# Altium footprint library k7sch5.PcbLib: 8 footprints
Each footprint in its own frame and in the unit in brackets; x right, y up, seen from the top. Pads: shape width x height; smd on the part's side, far side on the other; paste and mask are expansions set on the pad; w line width, h text height; cw(c..) or ccw(c..) is an arc to the next point about the centre after c.
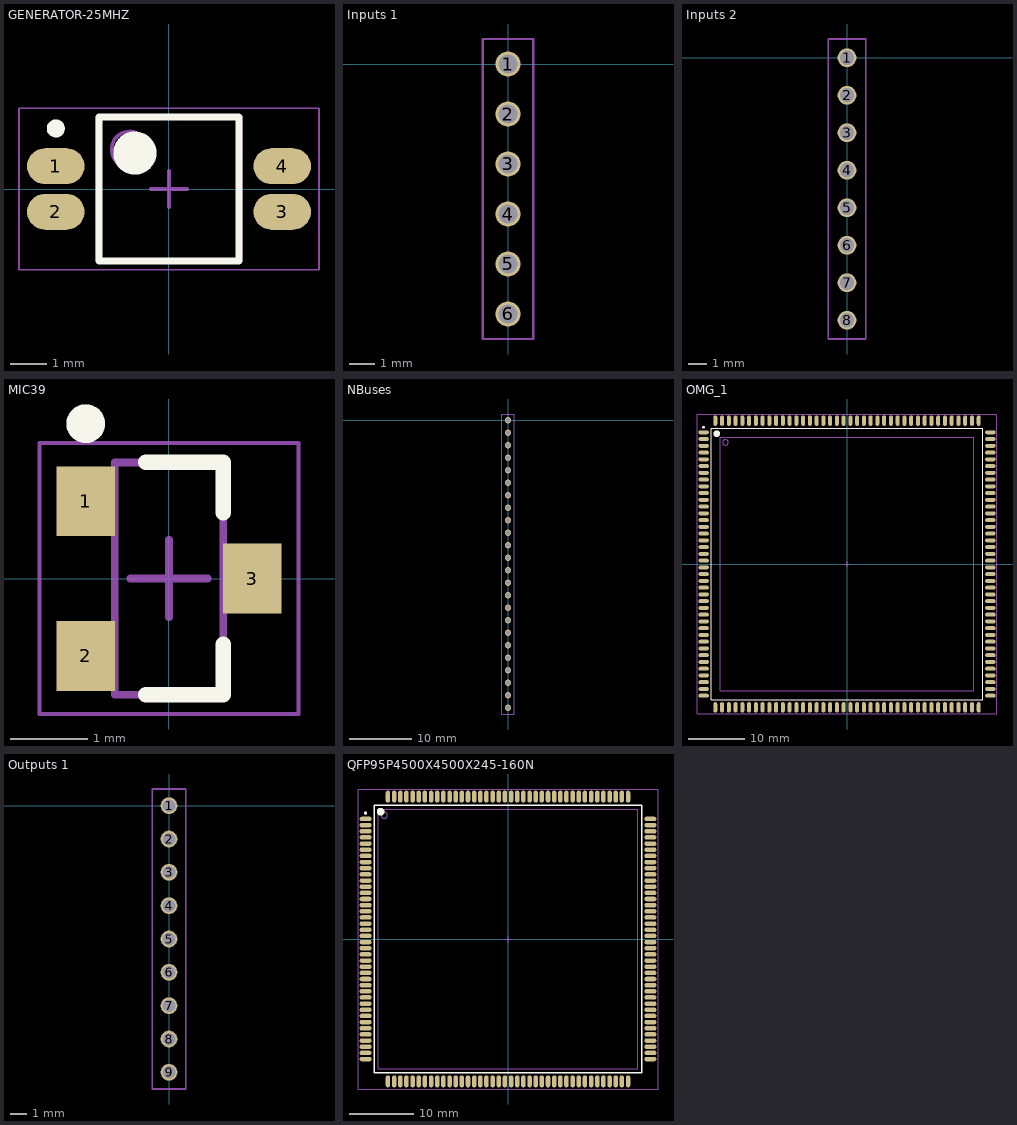
[diagram p0: the footprints below, top view; thin cyan lines are the x and y axes]

## GENERATOR-25MHZ [mm]
height 2.65
pads (4):
  oval 1.6x1 smd: 1(-3.15,0.635) 2(-3.15,-0.635) 3(3.15,-0.635) 4(3.15,0.635)
Top Overlay:
  circle w0.6: c-0.95,1 r0.3
  circle w0.25: c-3.15,1.685 r0.125
  lines w0.2: -1.95,-2 1.95,-2 1.95,2 -1.95,2 -1.95,-2
Mechanical 13:
  circle w0.1: c-1.1,1.1 r0.5
  lines w0.1: -2,-2 2,-2 2,2 -2,2 -2,-2
Mechanical 15:
  lines w0.05: -4.175,-2.25 4.175,-2.25 4.175,2.25 -4.175,2.25 -4.175,-2.25
  lines w0.1: -0.5,0 0.5,0 ; 0,-0.5 0,0.5
3D body: height 2.65, standoff 0.1, extent -2,-2 2,2

## Inputs 1 [mm]
pads (6):
  round 1 hole 0.75: 1(0,0) 2(0,-2) 3(0,-4) 4(0,-6) 5(0,-8) 6(0,-10)
Mechanical 15:
  lines w0.1: -1,-11 -1,1 1,1 1,-11 -1,-11

## Inputs 2 [mm]
pads (8):
  round 1 hole 0.75: 1(0,0) 2(0,-2) 3(0,-4) 4(0,-6) 5(0,-8) 6(0,-10) 7(0,-12) 8(0,-14)
Mechanical 15:
  lines w0.1: -1,-15 -1,1 1,1 1,-15 -1,-15

## MIC39 [mm]
height 1.1
pads (3):
  rect 0.75x0.9 smd: 1(-1.075,1) 2(-1.075,-1) 3(1.075,0)
Top Overlay:
  circle w0.25: c-1.075,2 r0.125
  lines w0.2: -0.3,-1.5 0.7,-1.5 0.7,-0.85 ; -0.3,1.5 0.7,1.5 0.7,0.85
Mechanical 13:
  lines w0.1: -0.7,-1.5 -0.7,1.5 0.7,1.5 0.7,-1.5 -0.7,-1.5
Mechanical 15:
  lines w0.05: -1.675,-1.75 -1.675,1.75 1.675,1.75 1.675,-1.75 -1.675,-1.75
  lines w0.1: -0.5,0 0.5,0 ; 0,-0.5 0,0.5
3D body: height 1.1, standoff 0.05, extent -0.7,-1.5 0.7,1.5

## NBuses [mm]
pads (24):
  round 1 hole 0.75: 1(0,0) 2(0,-2) 3(0,-4) 4(0,-6) 5(0,-8) 6(0,-10) 7(0,-12) 8(0,-14) 9(0,-16) 10(0,-18) 11(0,-20) 12(0,-22) 13(0,-24) 14(0,-26) 15(0,-28) 16(0,-30) 17(0,-32) 18(0,-34) 19(0,-36) 20(0,-38) 21(0,-40) 22(0,-42) 23(0,-44) 24(0,-46)
Mechanical 15:
  lines w0.1: -1,-47 1,-47 1,1 -1,1 -1,-47

## OMG_1 [mm] "QFP, 160-Leads, Body 45,00x45,00mm, Pitch 1,20mm, IPC Medium Density"
height 2.45
pads (160):
  oval 1.85x0.7 smd: 1(-25.475,23.4) 2(-25.475,22.2) 3(-25.475,21) 4(-25.475,19.8) 5(-25.475,18.6) 6(-25.475,17.4) 7(-25.475,16.2) 8(-25.475,15) 9(-25.475,13.8) 10(-25.475,12.6) 11(-25.475,11.4) 12(-25.475,10.2) 13(-25.475,9) 14(-25.475,7.8) 15(-25.475,6.6) 16(-25.475,5.4) 17(-25.475,4.2) 18(-25.475,3) 19(-25.475,1.8) 20(-25.475,0.6) 21(-25.475,-0.6) 22(-25.475,-1.8) 23(-25.475,-3) 24(-25.475,-4.2) 25(-25.475,-5.4) 26(-25.475,-6.6) 27(-25.475,-7.8) 28(-25.475,-9) 29(-25.475,-10.2) 30(-25.475,-11.4) 31(-25.475,-12.6) 32(-25.475,-13.8) 33(-25.475,-15) 34(-25.475,-16.2) 35(-25.475,-17.4) 36(-25.475,-18.6) 37(-25.475,-19.8) 38(-25.475,-21) 39(-25.475,-22.2) 40(-25.475,-23.4) 81(25.475,-23.4) 82(25.475,-22.2) 83(25.475,-21) 84(25.475,-19.8) 85(25.475,-18.6) 86(25.475,-17.4) 87(25.475,-16.2) 88(25.475,-15) 89(25.475,-13.8) 90(25.475,-12.6) 91(25.475,-11.4) 92(25.475,-10.2) 93(25.475,-9) 94(25.475,-7.8) 95(25.475,-6.6) 96(25.475,-5.4) 97(25.475,-4.2) 98(25.475,-3) 99(25.475,-1.8) 100(25.475,-0.6) 101(25.475,0.6) 102(25.475,1.8) 103(25.475,3) 104(25.475,4.2) 105(25.475,5.4) 106(25.475,6.6) 107(25.475,7.8) 108(25.475,9) 109(25.475,10.2) 110(25.475,11.4) 111(25.475,12.6) 112(25.475,13.8) 113(25.475,15) 114(25.475,16.2) 115(25.475,17.4) 116(25.475,18.6) 117(25.475,19.8) 118(25.475,21) 119(25.475,22.2) 120(25.475,23.4)
  oval 0.7x1.85 smd: 41(-23.4,-25.475) 42(-22.2,-25.475) 43(-21,-25.475) 44(-19.8,-25.475) 45(-18.6,-25.475) 46(-17.4,-25.475) 47(-16.2,-25.475) 48(-15,-25.475) 49(-13.8,-25.475) 50(-12.6,-25.475) 51(-11.4,-25.475) 52(-10.2,-25.475) 53(-9,-25.475) 54(-7.8,-25.475) 55(-6.6,-25.475) 56(-5.4,-25.475) 57(-4.2,-25.475) 58(-3,-25.475) 59(-1.8,-25.475) 60(-0.6,-25.475) 61(0.6,-25.475) 62(1.8,-25.475) 63(3,-25.475) 64(4.2,-25.475) 65(5.4,-25.475) 66(6.6,-25.475) 67(7.8,-25.475) 68(9,-25.475) 69(10.2,-25.475) 70(11.4,-25.475) 71(12.6,-25.475) 72(13.8,-25.475) 73(15,-25.475) 74(16.2,-25.475) 75(17.4,-25.475) 76(18.6,-25.475) 77(19.8,-25.475) 78(21,-25.475) 79(22.2,-25.475) 80(23.4,-25.475) 121(23.4,25.475) 122(22.2,25.475) 123(21,25.475) 124(19.8,25.475) 125(18.6,25.475) 126(17.4,25.475) 127(16.2,25.475) 128(15,25.475) 129(13.8,25.475) 130(12.6,25.475) 131(11.4,25.475) 132(10.2,25.475) 133(9,25.475) 134(7.8,25.475) 135(6.6,25.475) 136(5.4,25.475) 137(4.2,25.475) 138(3,25.475) 139(1.8,25.475) 140(0.6,25.475) 141(-0.6,25.475) 142(-1.8,25.475) 143(-3,25.475) 144(-4.2,25.475) 145(-5.4,25.475) 146(-6.6,25.475) 147(-7.8,25.475) 148(-9,25.475) 149(-10.2,25.475) 150(-11.4,25.475) 151(-12.6,25.475) 152(-13.8,25.475) 153(-15,25.475) 154(-16.2,25.475) 155(-17.4,25.475) 156(-18.6,25.475) 157(-19.8,25.475) 158(-21,25.475) 159(-22.2,25.475) 160(-23.4,25.475)
Top Overlay:
  circle w0.6: c-23.15,23.15 r0.3
  circle w0.25: c-25.475,24.3 r0.125
  lines w0.2: -24.15,-24.15 24.15,-24.15 24.15,24.15 -24.15,24.15 -24.15,-24.15
Mechanical 13:
  circle w0.1: c-21.6,21.6 r0.5
  lines w0.1: -22.5,-22.5 22.5,-22.5 22.5,22.5 -22.5,22.5 -22.5,-22.5
Mechanical 15:
  lines w0.05: -26.65,-26.65 26.65,-26.65 26.65,26.65 -26.65,26.65 -26.65,-26.65
  lines w0.1: -0.5,0 0.5,0 ; 0,-0.5 0,0.5
3D body: height 2.45, standoff 0.25, extent -22.5,-22.5 22.5,22.5

## Outputs 1 [mm]
pads (9):
  round 1 hole 0.75: 1(0,0) 2(0,-2) 3(0,-4) 4(0,-6) 5(0,-8) 6(0,-10) 7(0,-12) 8(0,-14) 9(0,-16)
Mechanical 15:
  lines w0.1: -1,-17 1,-17 1,1 -1,1 -1,-17

## QFP95P4500X4500X245-160N [mm] "QFP, 160-Leads, Body 40,00x40,00mm, Pitch 0,95mm, IPC Medium Density"
height 2.45
pads (160):
  oval 1.85x0.7 smd: 1(-21.975,18.525) 2(-21.975,17.575) 3(-21.975,16.625) 4(-21.975,15.675) 5(-21.975,14.725) 6(-21.975,13.775) 7(-21.975,12.825) 8(-21.975,11.875) 9(-21.975,10.925) 10(-21.975,9.975) 11(-21.975,9.025) 12(-21.975,8.075) 13(-21.975,7.125) 14(-21.975,6.175) 15(-21.975,5.225) 16(-21.975,4.275) 17(-21.975,3.325) 18(-21.975,2.375) 19(-21.975,1.425) 20(-21.975,0.475) 21(-21.975,-0.475) 22(-21.975,-1.425) 23(-21.975,-2.375) 24(-21.975,-3.325) 25(-21.975,-4.275) 26(-21.975,-5.225) 27(-21.975,-6.175) 28(-21.975,-7.125) 29(-21.975,-8.075) 30(-21.975,-9.025) 31(-21.975,-9.975) 32(-21.975,-10.925) 33(-21.975,-11.875) 34(-21.975,-12.825) 35(-21.975,-13.775) 36(-21.975,-14.725) 37(-21.975,-15.675) 38(-21.975,-16.625) 39(-21.975,-17.575) 40(-21.975,-18.525) 81(21.975,-18.525) 82(21.975,-17.575) 83(21.975,-16.625) 84(21.975,-15.675) 85(21.975,-14.725) 86(21.975,-13.775) 87(21.975,-12.825) 88(21.975,-11.875) 89(21.975,-10.925) 90(21.975,-9.975) 91(21.975,-9.025) 92(21.975,-8.075) 93(21.975,-7.125) 94(21.975,-6.175) 95(21.975,-5.225) 96(21.975,-4.275) 97(21.975,-3.325) 98(21.975,-2.375) 99(21.975,-1.425) 100(21.975,-0.475) 101(21.975,0.475) 102(21.975,1.425) 103(21.975,2.375) 104(21.975,3.325) 105(21.975,4.275) 106(21.975,5.225) 107(21.975,6.175) 108(21.975,7.125) 109(21.975,8.075) 110(21.975,9.025) 111(21.975,9.975) 112(21.975,10.925) 113(21.975,11.875) 114(21.975,12.825) 115(21.975,13.775) 116(21.975,14.725) 117(21.975,15.675) 118(21.975,16.625) 119(21.975,17.575) 120(21.975,18.525)
  oval 0.7x1.85 smd: 41(-18.525,-21.975) 42(-17.575,-21.975) 43(-16.625,-21.975) 44(-15.675,-21.975) 45(-14.725,-21.975) 46(-13.775,-21.975) 47(-12.825,-21.975) 48(-11.875,-21.975) 49(-10.925,-21.975) 50(-9.975,-21.975) 51(-9.025,-21.975) 52(-8.075,-21.975) 53(-7.125,-21.975) 54(-6.175,-21.975) 55(-5.225,-21.975) 56(-4.275,-21.975) 57(-3.325,-21.975) 58(-2.375,-21.975) 59(-1.425,-21.975) 60(-0.475,-21.975) 61(0.475,-21.975) 62(1.425,-21.975) 63(2.375,-21.975) 64(3.325,-21.975) 65(4.275,-21.975) 66(5.225,-21.975) 67(6.175,-21.975) 68(7.125,-21.975) 69(8.075,-21.975) 70(9.025,-21.975) 71(9.975,-21.975) 72(10.925,-21.975) 73(11.875,-21.975) 74(12.825,-21.975) 75(13.775,-21.975) 76(14.725,-21.975) 77(15.675,-21.975) 78(16.625,-21.975) 79(17.575,-21.975) 80(18.525,-21.975) 121(18.525,21.975) 122(17.575,21.975) 123(16.625,21.975) 124(15.675,21.975) 125(14.725,21.975) 126(13.775,21.975) 127(12.825,21.975) 128(11.875,21.975) 129(10.925,21.975) 130(9.975,21.975) 131(9.025,21.975) 132(8.075,21.975) 133(7.125,21.975) 134(6.175,21.975) 135(5.225,21.975) 136(4.275,21.975) 137(3.325,21.975) 138(2.375,21.975) 139(1.425,21.975) 140(0.475,21.975) 141(-0.475,21.975) 142(-1.425,21.975) 143(-2.375,21.975) 144(-3.325,21.975) 145(-4.275,21.975) 146(-5.225,21.975) 147(-6.175,21.975) 148(-7.125,21.975) 149(-8.075,21.975) 150(-9.025,21.975) 151(-9.975,21.975) 152(-10.925,21.975) 153(-11.875,21.975) 154(-12.825,21.975) 155(-13.775,21.975) 156(-14.725,21.975) 157(-15.675,21.975) 158(-16.625,21.975) 159(-17.575,21.975) 160(-18.525,21.975)
Top Overlay:
  circle w0.6: c-19.65,19.65 r0.3
  circle w0.25: c-21.975,19.425 r0.125
  lines w0.2: -20.65,-20.65 20.65,-20.65 20.65,20.65 -20.65,20.65 -20.65,-20.65
Mechanical 13:
  circle w0.1: c-19.1,19.1 r0.5
  lines w0.1: -20,-20 20,-20 20,20 -20,20 -20,-20
Mechanical 15:
  lines w0.05: -23.15,-23.15 23.15,-23.15 23.15,23.15 -23.15,23.15 -23.15,-23.15
  lines w0.1: -0.5,0 0.5,0 ; 0,-0.5 0,0.5
3D body: height 2.45, standoff 0.25, extent -20,-20 20,20